# Altium footprint library TXC-7M-16.PCBLIB: 1 footprints
Each footprint in its own frame and in the unit in brackets; x right, y up, seen from the top. Pads: shape width x height; smd on the part's side, far side on the other; paste and mask are expansions set on the pad; w line width, h text height; cw(c..) or ccw(c..) is an arc to the next point about the centre after c.
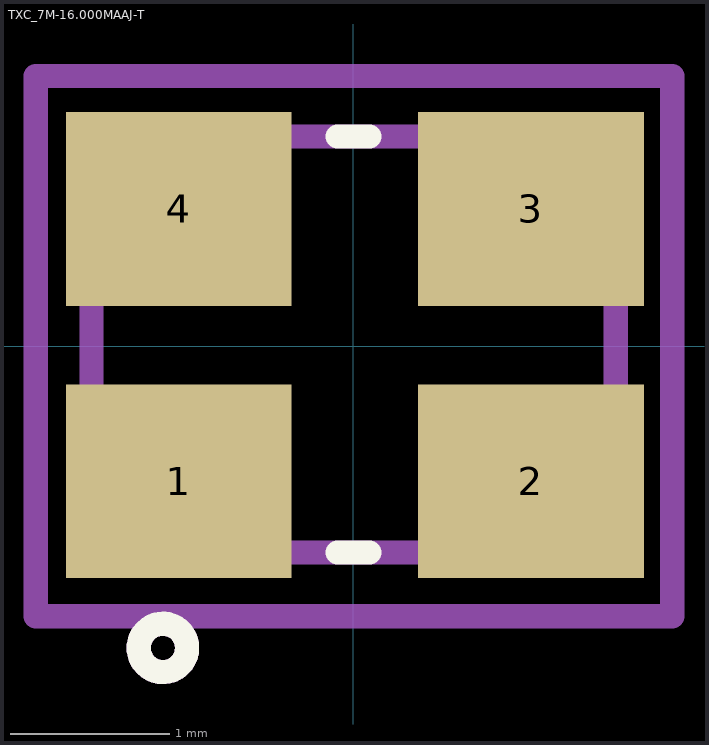
[diagram p0: the footprint, top view; thin cyan lines are the x and y axes]

## TXC_7M-16.000MAAJ-T [mil]
pads (4):
  rect 56x48 smd: 1(-43.31,-33.46) 2(44,-33.46) 3(44,34) 4(-43.31,34)
Top Overlay:
  circle w6: c-47.24,-74.8 r6
  lines w6: -3.94,-51.18 4,-51.18 ; -3.94,52 4,52
Mechanical 16:
  circle w6: c-47.24,-74.8 r6
  lines w6: -62.99,-19.68 -31.5,-51.18 ; -31.5,-51.18 65,-51.18 65,52 -64.96,52 -64.96,-51.18 -31.5,-51.18
Mech37:
  lines w6: -78.74,-66.93 79,-66.93 79,67 -78.74,67 -78.74,-66.93